# EAGLE library part PCA9515 (library Fugu_LSI)
I2C-bus repeater
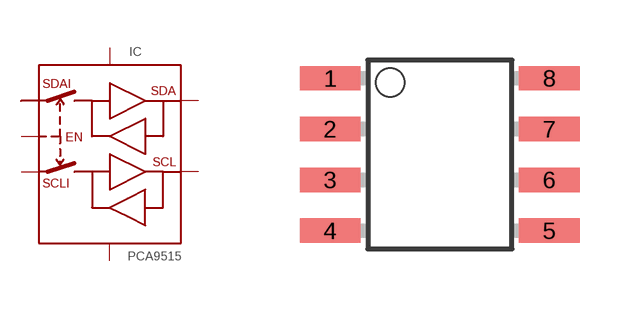
[diagram p28: symbol with the pads of SO-8; footprint SO-8]

Designator prefix IC

## PCA9515  [SO-8]
2  SCLI
3  SDAI
4  VSS  pwr
5  EN  in
6  SDA
7  SCL
8  VDD  pwr

## Footprint SO-8 (pad centres in mm)
SO 8 small outline
smd 1.524 x 0.61: 1 -2.743,1.905; 2 -2.743,0.635; 3 -2.743,-0.635; 4 -2.743,-1.905; 5 2.743,-1.905; 6 2.743,-0.635; 7 2.743,0.635; 8 2.743,1.905